# Altium footprint library jack_dc.PcbLib: 2 footprints
Each footprint in its own frame and in the unit in brackets; x right, y up, seen from the top. Pads: shape width x height; smd on the part's side, far side on the other; paste and mask are expansions set on the pad; w line width, h text height; cw(c..) or ccw(c..) is an arc to the next point about the centre after c.
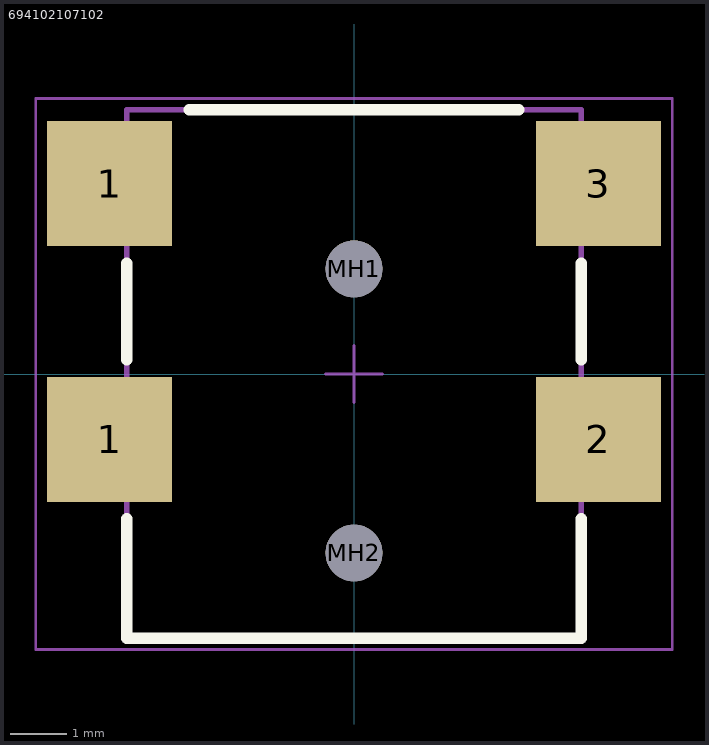
[diagram p0: the footprints below, top view; thin cyan lines are the x and y axes]

## 694102107102 [mm] "DC Power Jack Right Angled Low Profile SMT ?3.9 with 4 soldering pads & pegs"
height 5.3
pads (6):
  rect 2.2x2.2 smd: 1(-4.3,-1.15) 1(-4.3,3.35) 2(4.3,-1.15) 3(4.3,3.35)
  round 1 hole 1 unplated: MH1(0,1.85) MH2(0,-3.15)
Top Overlay:
  lines w0.2: -4,-2.55 -4,-4.65 4,-4.65 4,-2.55 ; -4,0.25 -4,1.95 ; -2.9,4.65 2.9,4.65 ; 4,0.25 4,1.95
Mechanical 13:
  lines w0.1: -4,-1.95 -4.9,-1.95 -4.9,-0.35 -4,-0.35 ; -4,2.55 -4.9,2.55 -4.9,4.15 -4,4.15 ; 4,-1.95 4.9,-1.95 4.9,-0.35 4,-0.35 ; 4,2.55 4.9,2.55 4.9,4.15 4,4.15 ; -4,-4.65 -4,4.65 4,4.65 4,-4.65 -4,-4.65
Mechanical 15:
  lines w0.05: -0.5,0 0.5,0 ; 0,-0.5 0,0.5 ; -5.6,-4.85 -5.6,4.85 5.6,4.85 5.6,-4.85 -5.6,-4.85
3D body "694102107102.stp": height 5.32, standoff -0.78, extent -4.9,-4.65 4.9,4.65

## PCBComponent_1 [mm]